# EAGLE library part DIP44 (library PGA44DIP44)
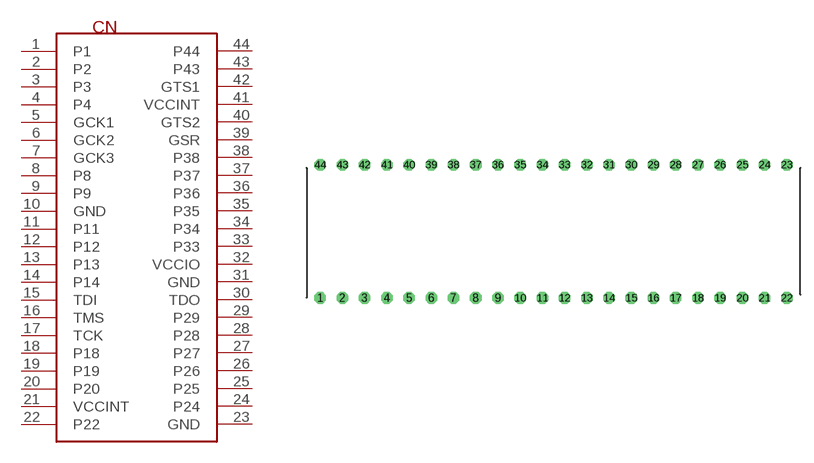
[diagram p0: symbol with the pads of DIP44; footprint DIP44]

Designator prefix CN

## DIP44  [DIP44]
1  P1
2  P2
3  P3
4  P4
5  GCK1
6  GCK2
7  GCK3
8  P8
9  P9
10  GND
11  P11
12  P12
13  P13
14  P14
15  TDI
16  TMS
17  TCK
18  P18
19  P19
20  P20
21  VCCINT
22  P22
23  GND
24  P24
25  P25
26  P26
27  P27
28  P28
29  P29
30  TDO
31  GND
32  VCCIO
33  P33
34  P34
35  P35
36  P36
37  P37
38  P38
39  GSR
40  GTS2
41  VCCINT
42  GTS1
43  P43
44  P44

## Footprint DIP44 (pad centres in mm)
SMD DIL44 dual in line package, body 13.52 mm
drill 0.813 octagon: 1 -26.67,-8.89; 2 -24.13,-8.89; 3 -21.59,-8.89; 4 -19.05,-8.89; 5 -16.51,-8.89; 6 -13.97,-8.89; 7 -11.43,-8.89; 8 -8.89,-8.89; 9 -6.35,-8.89; 10 -3.81,-8.89; 11 -1.27,-8.89; 12 1.27,-8.89; 13 3.81,-8.89; 14 6.35,-8.89; 15 8.89,-8.89; 16 11.43,-8.89; 17 13.97,-8.89; 18 16.51,-8.89; 19 19.05,-8.89; 20 21.59,-8.89; 21 24.13,-8.89; 22 26.67,-8.89; 23 26.67,6.35; 24 24.13,6.35; 25 21.59,6.35; 26 19.05,6.35; 27 16.51,6.35; 28 13.97,6.35; 29 11.43,6.35; 30 8.89,6.35; 31 6.35,6.35; 32 3.81,6.35; 33 1.27,6.35; 34 -1.27,6.35; 35 -3.81,6.35; 36 -6.35,6.35; 37 -8.89,6.35; 38 -11.43,6.35; 39 -13.97,6.35; 40 -16.51,6.35; 41 -19.05,6.35; 42 -21.59,6.35; 43 -24.13,6.35; 44 -26.67,6.35